# EAGLE library part 648009117322 (library Wire-to-Board)
WR-WTB 1.50mm Male Horizontal Shrouded Header, 9 Pins=>Code : Con_WTB_1.50_PCB_THT_648009117322 <http://katalog.we-online.de/media/thumbs2/eican/thb_Con_WTB_1.50_PCB_THT_6480xx117322_pf2.jpg> Details see: http://katalog.we-online.de/en/em/648_0xx_117_322 Created 2014-06-06, Karrer Zheng 2014 (C) Würth Elektronik
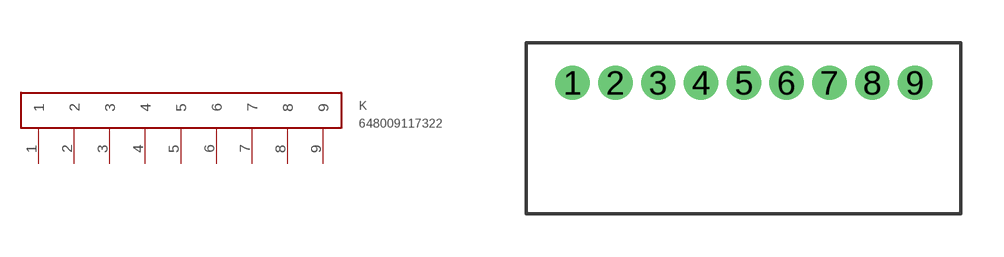
[diagram p79: symbol with the pads of 648009117322; footprint 648009117322]

Designator prefix K

## 648009117322  [648009117322]
1  1
2  2
3  3
4  4
5  5
6  6
7  7
8  8
9  9

## Footprint 648009117322 (pad centres in mm)
WR-WTB 1.50mm Male Horizontal Shrouded Header, 9 Pins
drill 0.7: 1 -0.75,0; 2 0.75,0; 3 2.25,0; 4 3.75,0; 5 5.25,0; 6 6.75,0; 7 8.25,0; 8 9.75,0; 9 11.25,0